# EAGLE library part MPR121QR2 (library MPR121QR2)
Proximity Capacitive Touch Sensor Controller
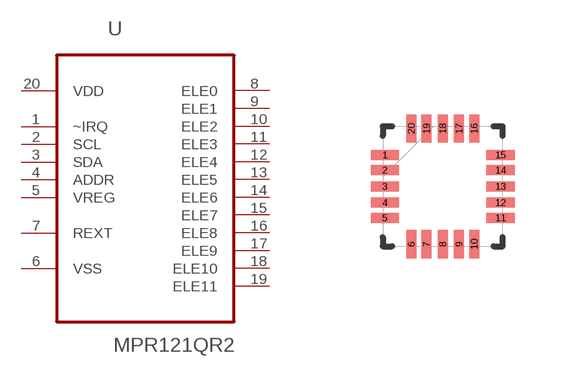
[diagram p0: symbol with the pads of QFN40P300X300X60-20N; footprint QFN40P300X300X60-20N]

Designator prefix U

## MPR121QR2 (Availability: Unavailable; Description: Capacitive Touch Buttons, Slider, Wheel 20-QFN _3x3_; MF: NXP USA; MP: MPR121QR2; Package: QFN-20 Resurgent; Price: None)  [QFN40P300X300X60-20N]
1  ~IRQ  in
2  SCL  in
3  SDA  in
4  ADDR  in
5  VREG  in
6  VSS  pwr
7  REXT  in
8  ELE0  out
9  ELE1  out
10  ELE2  out
11  ELE3  out
12  ELE4  out
13  ELE5  out
14  ELE6  out
15  ELE7  out
16  ELE8  out
17  ELE9  out
18  ELE10  out
19  ELE11  out
20  VDD  pwr

## Footprint QFN40P300X300X60-20N (pad centres in mm)
smd 0.711 x 0.254: 1 -1.448,0.787; 2 -1.448,0.406; 3 -1.448,0; 4 -1.448,-0.406; 5 -1.448,-0.787; 11 1.448,-0.787; 12 1.448,-0.406; 13 1.448,0; 14 1.448,0.406; 15 1.448,0.787
smd 0.254 x 0.711: 6 -0.787,-1.448; 7 -0.406,-1.448; 8 0,-1.448; 9 0.406,-1.448; 10 0.787,-1.448; 16 0.787,1.448; 17 0.406,1.448; 18 0,1.448; 19 -0.406,1.448; 20 -0.787,1.448